# EAGLE library part MMA8652FC (library parts)
Xtrinsic MMA8652FC 3-Axis, 12-bit Digital Accelerometer http://cache.freescale.com/files/sensors/doc/data_sheet/MMA8652FC.pdf
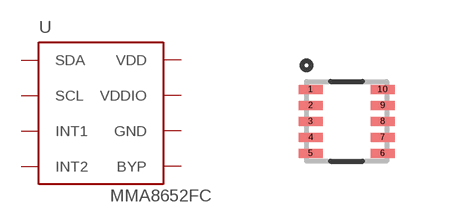
[diagram p2: symbol with the pads of 10-VFDFN; footprint 10-VFDFN]

Designator prefix U

## MMA8652FC  [10-VFDFN]
1  VDD
2  SCL
3  INT1
4  BYP
5  INT2
6  GND
7  GND
8  VDDIO
9  GND
10  SDA

## Footprint 10-VFDFN (pad centres in mm)
smd 0.6 x 0.225: 1 -0.9,0.8; 2 -0.9,0.4; 3 -0.9,0; 4 -0.9,-0.4; 5 -0.9,-0.8; 6 0.9,-0.8; 7 0.9,-0.4; 8 0.9,0; 9 0.9,0.4; 10 0.9,0.8